# Altium footprint library PQFN50P250X350X100-16T.PcbLib: 1 footprints
Each footprint in its own frame and in the unit in brackets; x right, y up, seen from the top. Pads: shape width x height; smd on the part's side, far side on the other; paste and mask are expansions set on the pad; w line width, h text height; cw(c..) or ccw(c..) is an arc to the next point about the centre after c.
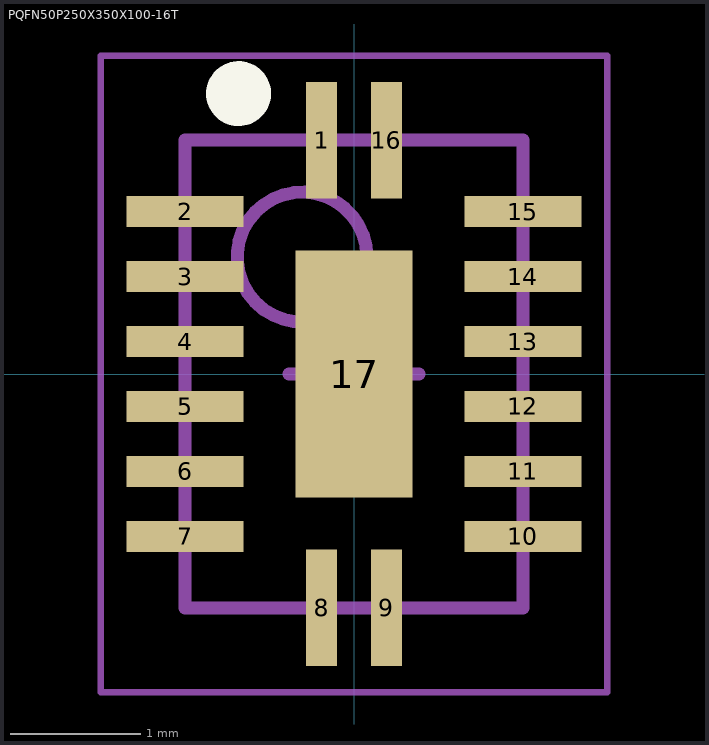
[diagram p0: the footprint, top view; thin cyan lines are the x and y axes]

## PQFN50P250X350X100-16T [mm] "PQFN, 16-Leads, Body 2.50x3.50mm, Pitch 0.50mm, Thermal Pad 1.00x2.00mm"
height 1
pads (17):
  rect 0.24x0.9 smd paste-0.025 mask+0.102: 1(-0.25,1.8) 8(-0.25,-1.8) 9(0.25,-1.8) 16(0.25,1.8)
  rect 0.9x0.24 smd paste-0.025 mask+0.102: 2(-1.3,1.25) 3(-1.3,0.75) 4(-1.3,0.25) 5(-1.3,-0.25) 6(-1.3,-0.75) 7(-1.3,-1.25) 10(1.3,-1.25) 11(1.3,-0.75) 12(1.3,-0.25) 13(1.3,0.25) 14(1.3,0.75) 15(1.3,1.25)
  rect 0.9x1.9 smd paste-0.5 mask+0.102: 17(0,0)
Top Overlay:
  circle w0.25: c-0.889,2.159 r0.125
Top Paste:
  rectangle: -0.2,0.15 0.2,0.55
  rectangle: -0.2,-0.55 0.2,-0.15
Mechanical 13:
  circle w0.1: c-0.4,0.9 r0.5
  lines w0.1: -1.3,-1.8 -1.3,1.8 1.3,1.8 1.3,-1.8 -1.3,-1.8
Mechanical 15:
  lines w0.05: -1.95,-2.45 -1.95,2.45 1.95,2.45 1.95,-2.45 -1.95,-2.45
  lines w0.1: -0.5,0 0.5,0 ; 0,-0.5 0,0.5
3D body "PQFN50P250X350X100_HS-17N.step": height 1, standoff 0, extent -1.3,-1.8 1.3,1.8